# EAGLE library part HEADER-BDM6 (library vieng)
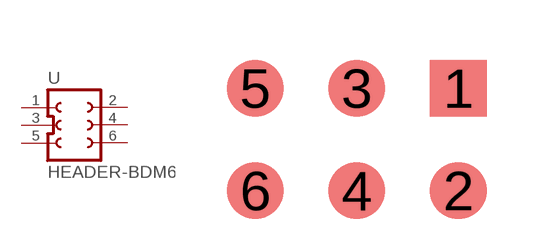
[diagram p6: symbol with the pads of HEADER-BDM6; footprint HEADER-BDM6]

Designator prefix -

## HEADER-BDM6  [HEADER-BDM6]
1  1
2  2
3  3  nc
4  4
5  5  nc
6  6

## Footprint HEADER-BDM6 (pad centres in mm)
smd 1.422 x 1.422: 1 2.54,1.295; 2 2.54,-1.27; 3 0,1.295; 4 0,-1.27; 5 -2.54,1.295; 6 -2.54,-1.27